# EAGLE library part MC33153-D (library Gate_Drivers)
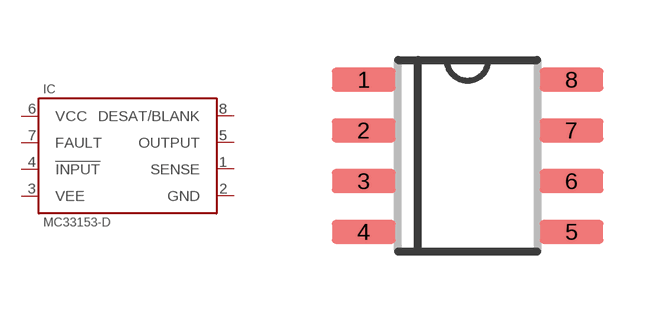
[diagram p1: symbol with the pads of SOIC-8; footprint SOIC-8]

Designator prefix IC

## MC33153-D  [SOIC-8]
1  SENSE
2  GND
3  VEE  pwr
4  !INPUT  in
5  OUTPUT
6  VCC  pwr
7  FAULT  in
8  DESAT/BLANK  pwr

## Footprint SOIC-8 (pad centres in mm)
smd 1.6 x 0.6: 1 -2.6,1.905; 2 -2.6,0.635; 3 -2.6,-0.635; 4 -2.6,-1.905; 5 2.6,-1.905; 6 2.6,-0.635; 7 2.6,0.635; 8 2.6,1.905